# EAGLE library part K-HEADER-MALE-1X9- (library elpp-tht-v1.4)
PIN HEADER
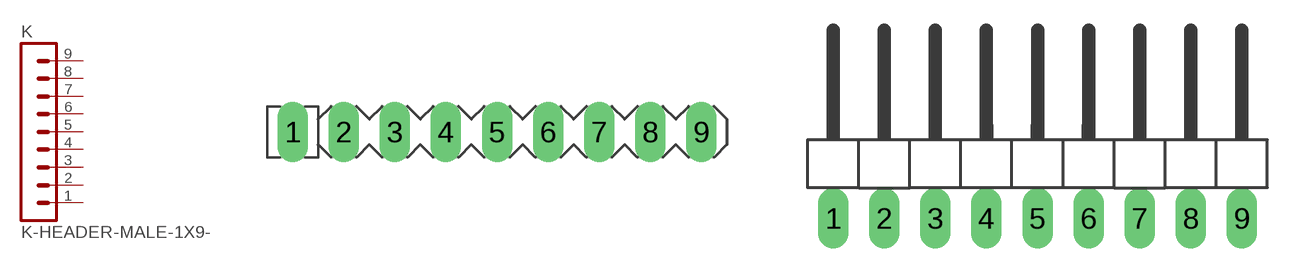
[diagram p10: symbol with the pads of ELPP-SIL-M-9-WAY; footprints ELPP-SIL-M-9-WAY, ELPP-SIL-M-9-WAY-90DEG]

Designator prefix K

## K-HEADER-MALE-1X9-V (FARNELL: 1098454; RS: 6812058)  [ELPP-SIL-M-9-WAY]
1  1  pas
2  2  pas
3  3  pas
4  4  pas
5  5  pas
6  6  pas
7  7  pas
8  8  pas
9  9  pas

## K-HEADER-MALE-1X9-H (FARNELL: 1098476; RS: 6812060)  [ELPP-SIL-M-9-WAY-90DEG]
Pads as for ELPP-SIL-M-9-WAY

## Footprint ELPP-SIL-M-9-WAY (pad centres in mm)
PIN HEADER, 9-way
drill 1 long: 1 -5.08,0; 2 -2.54,0; 3 0,0; 4 2.54,0; 5 5.08,0; 6 7.62,0; 7 10.16,0; 8 12.7,0; 9 15.24,0

## Footprint ELPP-SIL-M-9-WAY-90DEG (pad centres in mm)
PIN HEADER, 1 row, 90 degrees
drill 1 long: 1 -10.16,0; 2 -7.62,0; 3 -5.08,0; 4 -2.54,0; 5 0,0; 6 2.54,0; 7 5.08,0; 8 7.62,0; 9 10.16,0